# EAGLE library part RJ-45-* (library ProjectOnly6)
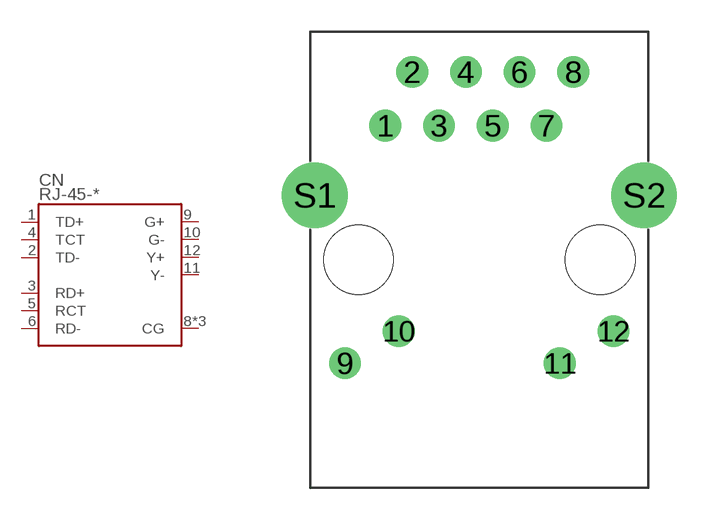
[diagram p3: symbol with the pads of RJ-45; footprint RJ-45]

Designator prefix CN

## RJ-45-RJLD260TC1  [RJ-45]
1  TD+
2  TD-
3  RD+
4  TCT
5  RCT
6  RD-
8  CG
9  G+
10  G-
11  Y-
12  Y+
S1  CG
S2  CG

## RJ-45-J0011D21BNL  [RJ-45]
Pads as for RJ-45

## Footprint RJ-45 (pad centres in mm)
drill 0.9 pad 1.5: 1 -4.445,6.35; 2 -3.175,8.89; 3 -1.905,6.35; 4 -0.635,8.89; 5 0.635,6.35; 6 1.905,8.89; 7 3.175,6.35; 8 4.445,8.89; 9 -6.35,-4.9; 10 -3.81,-3.38; 11 3.81,-4.9; 12 6.35,-3.38
drill 2.1 pad 2.9: S1 -7.79,3.05; S2 7.79,3.05
hole 3.3 at -5.715,0
hole 3.3 at 5.715,0